# Altium footprint library 1812_CAP.PcbLib: 1 footprints
Each footprint in its own frame and in the unit in brackets; x right, y up, seen from the top. Pads: shape width x height; smd on the part's side, far side on the other; paste and mask are expansions set on the pad; w line width, h text height; cw(c..) or ccw(c..) is an arc to the next point about the centre after c.
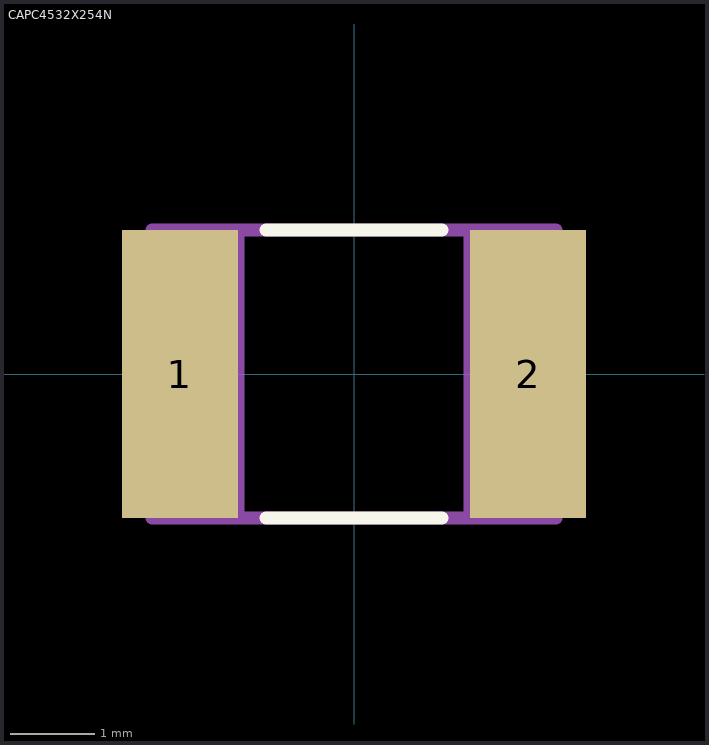
[diagram p0: the footprint, top view; thin cyan lines are the x and y axes]

## CAPC4532X254N [mil]
pads (2):
  rect 54x134 smd: 1(-81,0) 2(81,0)
Top Overlay:
  lines w6: -41,-67 41,-67 ; -41,67 41,67
Mechanical 13:
  lines w6: -54,-67 54,-67 ; -54,-67 -94,-67 -94,67 -54,67 ; -54,-67 -54,67 ; -54,67 54,67 ; 54,-67 94,-67 94,67 54,67 ; 54,-67 54,67
3D body "step_temp.STEP": height 100, standoff 0, extent -88.58,-62.99 88.58,62.99